# EAGLE library part MKR_TEMPLATE (library Arduino)
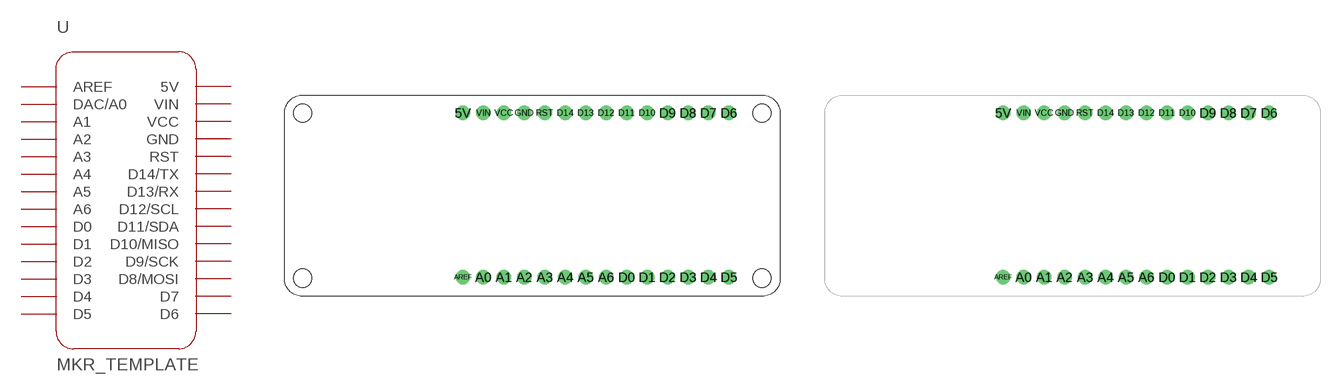
[diagram p0: symbol with the pads of MKR_TEMPLATE; footprints MKR_TEMPLATE, MKR_TEMPLATE_NODIM]

Designator prefix -

## MKR_TEMPLATE  [MKR_TEMPLATE]
5V  5V
A0  DAC/A0
A1  A1
A2  A2
A3  A3
A4  A4
A5  A5
A6  A6
AREF  AREF
D0  D0
D1  D1
D2  D2
D3  D3
D4  D4
D5  D5
D6  D6
D7  D7
D8  D8/MOSI
D9  D9/SCK
D10  D10/MISO
D11  D11/SDA
D12  D12/SCL
D13  D13/RX
D14  D14/TX
GND  GND
RST  RST
VCC  VCC
VIN  VIN

## MKR_TEMPLATE_NODIM  [MKR_TEMPLATE_NODIM]
Pads as for MKR_TEMPLATE

## Footprint MKR_TEMPLATE (pad centres in mm)
drill 1.2: 5V 22.13,22.75; A0 24.67,2.35; A1 27.21,2.35; A2 29.75,2.35; A3 32.29,2.35; A4 34.83,2.35; A5 37.37,2.35; A6 39.91,2.35; AREF 22.13,2.35; D0 42.45,2.35; D1 44.99,2.35; D2 47.53,2.35; D3 50.07,2.35; D4 52.61,2.35; D5 55.15,2.35; D6 55.15,22.75; D7 52.61,22.75; D8 50.07,22.75; D9 47.53,22.75; D10 44.99,22.75; D11 42.45,22.75; D12 39.91,22.75; D13 37.37,22.75; D14 34.83,22.75; GND 29.75,22.75; RST 32.29,22.75; VCC 27.21,22.75; VIN 24.67,22.75
hole 2.25 at 2.25,2.25
hole 2.25 at 59.25,2.25
hole 2.25 at 2.25,22.75
hole 2.25 at 59.25,22.75

## Footprint MKR_TEMPLATE_NODIM (pad centres in mm)
drill 1.2: 5V 22.13,22.75; A0 24.67,2.35; A1 27.21,2.35; A2 29.75,2.35; A3 32.29,2.35; A4 34.83,2.35; A5 37.37,2.35; A6 39.91,2.35; AREF 22.13,2.35; D0 42.45,2.35; D1 44.99,2.35; D2 47.53,2.35; D3 50.07,2.35; D4 52.61,2.35; D5 55.15,2.35; D6 55.15,22.75; D7 52.61,22.75; D8 50.07,22.75; D9 47.53,22.75; D10 44.99,22.75; D11 42.45,22.75; D12 39.91,22.75; D13 37.37,22.75; D14 34.83,22.75; GND 29.75,22.75; RST 32.29,22.75; VCC 27.21,22.75; VIN 24.67,22.75